# Altium schematic symbol library MCU_Microchip_8051.SchLib: 15 symbols
Pins are listed as number, name and electrical type; pins without a type are passive.

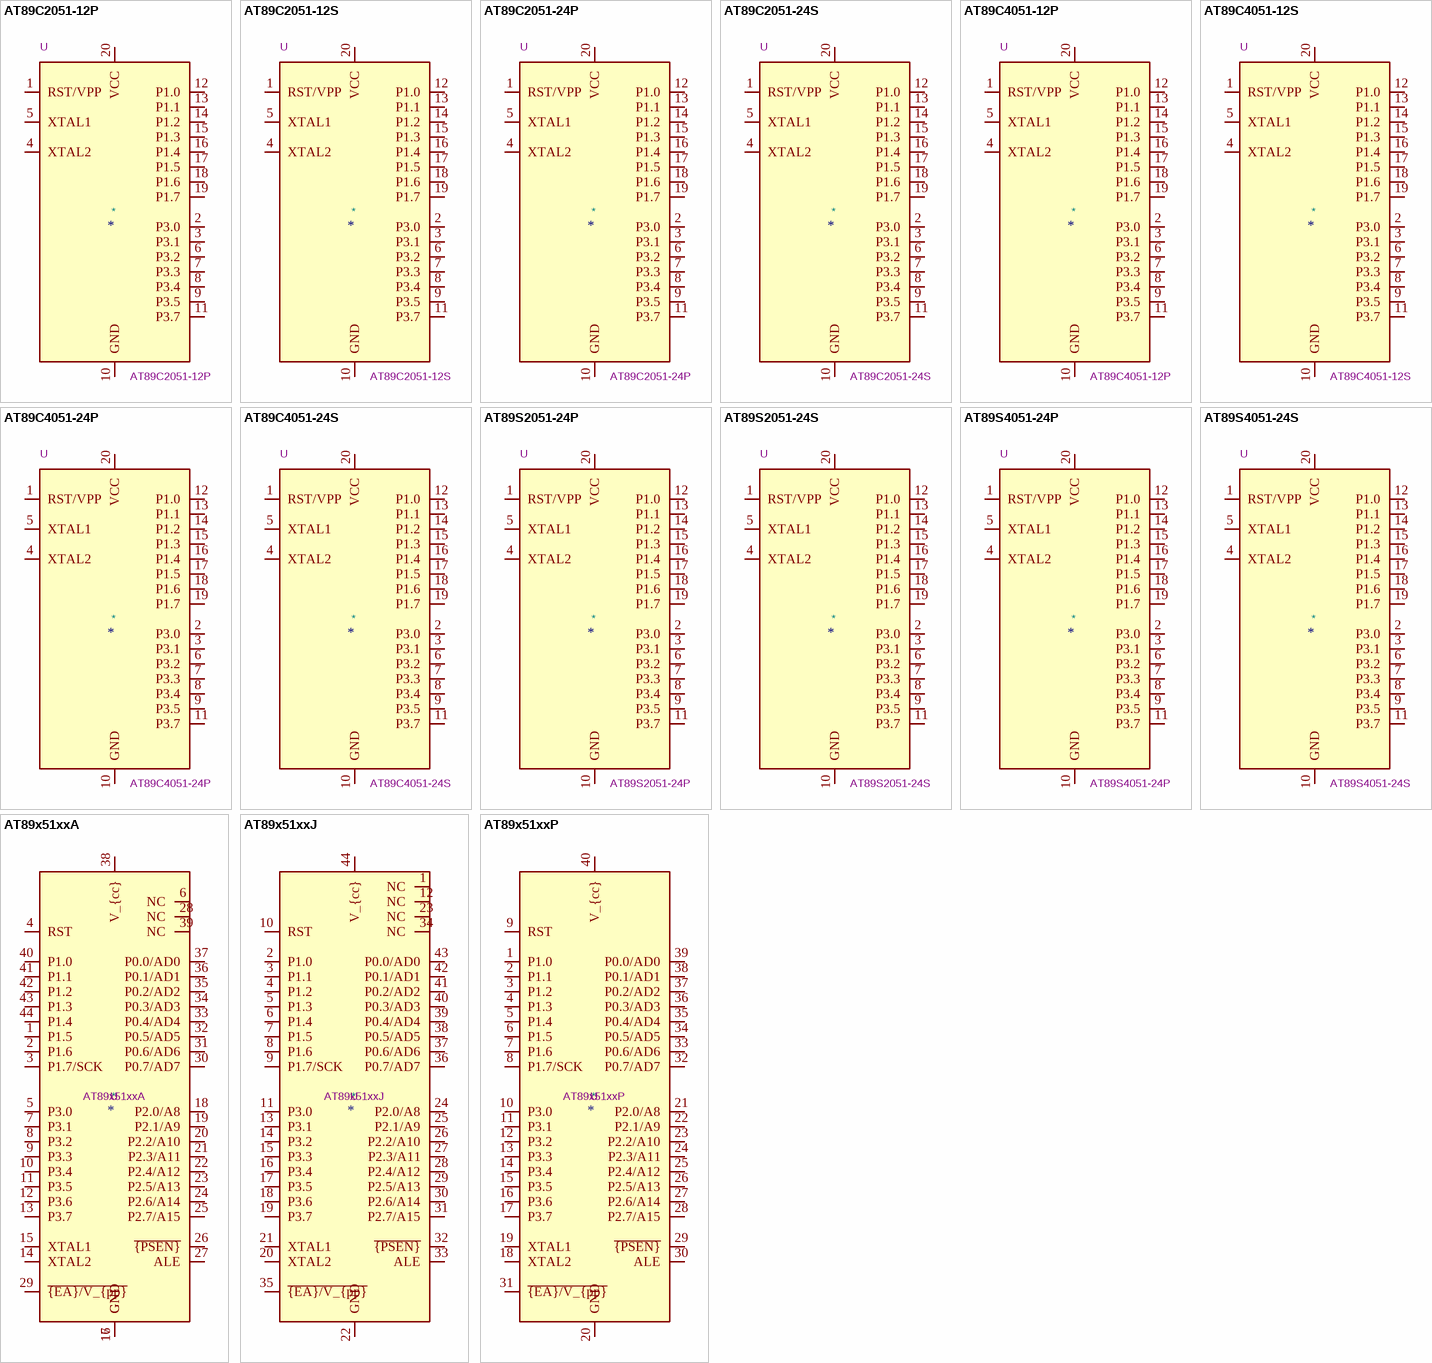
[diagram p0: symbols AT89C2051-12P to AT89x51xxP]

## AT89C2051-12P
designator *  value AT89C2051-12P  Reference: U
12MHz, 2kB Flash, 128B SRAM, DIP-20; ki_keywords: MCS-51 8bit Flash Microcontroller; ki_fp_filters: DIP*W7.62mm*; Footprint: Package_DIP:DIP-20_W7.62mm; Datasheet: http://ww1.microchip.com/downloads/en/DeviceDoc/doc0368.pdf; Description_: 12MHz, 2kB Flash, 128B SRAM, DIP-20
pins: 1 RST/VPP, 2 P3.0, 3 P3.1, 4 XTAL2, 5 XTAL1, 6 P3.2, 7 P3.3, 8 P3.4, 9 P3.5, 10 GND, 11 P3.7, 12 P1.0, 13 P1.1, 14 P1.2, 15 P1.3, 16 P1.4, 17 P1.5, 18 P1.6, 19 P1.7, 20 VCC

## AT89C2051-12S
designator *  value AT89C2051-12S  Reference: U
12MHz, 2kB Flash, 128B SRAM, SOIC-20; ki_keywords: MCS-51 8bit Flash Microcontroller; ki_fp_filters: SOIC*7.5x12.8mm*P1.27mm*; Footprint: Package_SO:SOIC-20W_7.5x12.8mm_P1.27mm; Datasheet: http://ww1.microchip.com/downloads/en/DeviceDoc/doc0368.pdf; Description_: 12MHz, 2kB Flash, 128B SRAM, SOIC-20
pins: 1 RST/VPP, 2 P3.0, 3 P3.1, 4 XTAL2, 5 XTAL1, 6 P3.2, 7 P3.3, 8 P3.4, 9 P3.5, 10 GND, 11 P3.7, 12 P1.0, 13 P1.1, 14 P1.2, 15 P1.3, 16 P1.4, 17 P1.5, 18 P1.6, 19 P1.7, 20 VCC

## AT89C2051-24P
designator *  value AT89C2051-24P  Reference: U
24MHz, 2kB Flash, 128B SRAM, DIP-20; ki_keywords: MCS-51 8bit Flash Microcontroller; ki_fp_filters: DIP*W7.62mm*; Footprint: Package_DIP:DIP-20_W7.62mm; Datasheet: http://ww1.microchip.com/downloads/en/DeviceDoc/doc0368.pdf; Description_: 24MHz, 2kB Flash, 128B SRAM, DIP-20
pins: 1 RST/VPP, 2 P3.0, 3 P3.1, 4 XTAL2, 5 XTAL1, 6 P3.2, 7 P3.3, 8 P3.4, 9 P3.5, 10 GND, 11 P3.7, 12 P1.0, 13 P1.1, 14 P1.2, 15 P1.3, 16 P1.4, 17 P1.5, 18 P1.6, 19 P1.7, 20 VCC

## AT89C2051-24S
designator *  value AT89C2051-24S  Reference: U
24MHz, 2kB Flash, 128B SRAM, SOIC-20; ki_keywords: MCS-51 8bit Flash Microcontroller; ki_fp_filters: SOIC*7.5x12.8mm*P1.27mm*; Footprint: Package_SO:SOIC-20W_7.5x12.8mm_P1.27mm; Datasheet: http://ww1.microchip.com/downloads/en/DeviceDoc/doc0368.pdf; Description_: 24MHz, 2kB Flash, 128B SRAM, SOIC-20
pins: 1 RST/VPP, 2 P3.0, 3 P3.1, 4 XTAL2, 5 XTAL1, 6 P3.2, 7 P3.3, 8 P3.4, 9 P3.5, 10 GND, 11 P3.7, 12 P1.0, 13 P1.1, 14 P1.2, 15 P1.3, 16 P1.4, 17 P1.5, 18 P1.6, 19 P1.7, 20 VCC

## AT89C4051-12P
designator *  value AT89C4051-12P  Reference: U
12MHz, 4kB Flash, 128B SRAM, DIP-20; ki_keywords: MCS-51 8bit Flash Microcontroller; ki_fp_filters: DIP*W7.62mm*; Footprint: Package_DIP:DIP-20_W7.62mm; Datasheet: http://ww1.microchip.com/downloads/en/DeviceDoc/doc1001.pdf; Description_: 12MHz, 4kB Flash, 128B SRAM, DIP-20
pins: 1 RST/VPP, 2 P3.0, 3 P3.1, 4 XTAL2, 5 XTAL1, 6 P3.2, 7 P3.3, 8 P3.4, 9 P3.5, 10 GND, 11 P3.7, 12 P1.0, 13 P1.1, 14 P1.2, 15 P1.3, 16 P1.4, 17 P1.5, 18 P1.6, 19 P1.7, 20 VCC

## AT89C4051-12S
designator *  value AT89C4051-12S  Reference: U
12MHz, 4kB Flash, 128B SRAM, SOIC-20; ki_keywords: MCS-51 8bit Flash Microcontroller; ki_fp_filters: SOIC*7.5x12.8mm*P1.27mm*; Footprint: Package_SO:SOIC-20W_7.5x12.8mm_P1.27mm; Datasheet: http://ww1.microchip.com/downloads/en/DeviceDoc/doc1001.pdf; Description_: 12MHz, 4kB Flash, 128B SRAM, SOIC-20
pins: 1 RST/VPP, 2 P3.0, 3 P3.1, 4 XTAL2, 5 XTAL1, 6 P3.2, 7 P3.3, 8 P3.4, 9 P3.5, 10 GND, 11 P3.7, 12 P1.0, 13 P1.1, 14 P1.2, 15 P1.3, 16 P1.4, 17 P1.5, 18 P1.6, 19 P1.7, 20 VCC

## AT89C4051-24P
designator *  value AT89C4051-24P  Reference: U
24MHz, 4kB Flash, 128B SRAM, DIP-20; ki_keywords: MCS-51 8bit Flash Microcontroller; ki_fp_filters: DIP*W7.62mm*; Footprint: Package_DIP:DIP-20_W7.62mm; Datasheet: http://ww1.microchip.com/downloads/en/DeviceDoc/doc1001.pdf; Description_: 24MHz, 4kB Flash, 128B SRAM, DIP-20
pins: 1 RST/VPP, 2 P3.0, 3 P3.1, 4 XTAL2, 5 XTAL1, 6 P3.2, 7 P3.3, 8 P3.4, 9 P3.5, 10 GND, 11 P3.7, 12 P1.0, 13 P1.1, 14 P1.2, 15 P1.3, 16 P1.4, 17 P1.5, 18 P1.6, 19 P1.7, 20 VCC

## AT89C4051-24S
designator *  value AT89C4051-24S  Reference: U
24MHz, 4kB Flash, 128B SRAM, SOIC-20; ki_keywords: MCS-51 8bit Flash Microcontroller; ki_fp_filters: SOIC*7.5x12.8mm*P1.27mm*; Footprint: Package_SO:SOIC-20W_7.5x12.8mm_P1.27mm; Datasheet: http://ww1.microchip.com/downloads/en/DeviceDoc/doc1001.pdf; Description_: 24MHz, 4kB Flash, 128B SRAM, SOIC-20
pins: 1 RST/VPP, 2 P3.0, 3 P3.1, 4 XTAL2, 5 XTAL1, 6 P3.2, 7 P3.3, 8 P3.4, 9 P3.5, 10 GND, 11 P3.7, 12 P1.0, 13 P1.1, 14 P1.2, 15 P1.3, 16 P1.4, 17 P1.5, 18 P1.6, 19 P1.7, 20 VCC

## AT89S2051-24P
designator *  value AT89S2051-24P  Reference: U
24MHz, 2kB Flash, 256B SRAM, DIP-20; ki_keywords: MCS-51 8bit Flash Microcontroller; ki_fp_filters: DIP*W7.62mm*; Footprint: Package_DIP:DIP-20_W7.62mm; Datasheet: http://ww1.microchip.com/downloads/en/DeviceDoc/doc3390.pdf; Description_: 24MHz, 2kB Flash, 256B SRAM, DIP-20
pins: 1 RST/VPP, 2 P3.0, 3 P3.1, 4 XTAL2, 5 XTAL1, 6 P3.2, 7 P3.3, 8 P3.4, 9 P3.5, 10 GND, 11 P3.7, 12 P1.0, 13 P1.1, 14 P1.2, 15 P1.3, 16 P1.4, 17 P1.5, 18 P1.6, 19 P1.7, 20 VCC

## AT89S2051-24S
designator *  value AT89S2051-24S  Reference: U
24MHz, 2kB Flash, 256B SRAM, SOIC-20; ki_keywords: MCS-51 8bit Flash Microcontroller; ki_fp_filters: SOIC*7.5x12.8mm*P1.27mm*; Footprint: Package_SO:SOIC-20W_7.5x12.8mm_P1.27mm; Datasheet: http://ww1.microchip.com/downloads/en/DeviceDoc/doc3390.pdf; Description_: 24MHz, 2kB Flash, 256B SRAM, SOIC-20
pins: 1 RST/VPP, 2 P3.0, 3 P3.1, 4 XTAL2, 5 XTAL1, 6 P3.2, 7 P3.3, 8 P3.4, 9 P3.5, 10 GND, 11 P3.7, 12 P1.0, 13 P1.1, 14 P1.2, 15 P1.3, 16 P1.4, 17 P1.5, 18 P1.6, 19 P1.7, 20 VCC

## AT89S4051-24P
designator *  value AT89S4051-24P  Reference: U
24MHz, 4kB Flash, 256B SRAM, DIP-20; ki_keywords: MCS-51 8bit Flash Microcontroller; ki_fp_filters: DIP*W7.62mm*; Footprint: Package_DIP:DIP-20_W7.62mm; Datasheet: http://ww1.microchip.com/downloads/en/DeviceDoc/doc3390.pdf; Description_: 24MHz, 4kB Flash, 256B SRAM, DIP-20
pins: 1 RST/VPP, 2 P3.0, 3 P3.1, 4 XTAL2, 5 XTAL1, 6 P3.2, 7 P3.3, 8 P3.4, 9 P3.5, 10 GND, 11 P3.7, 12 P1.0, 13 P1.1, 14 P1.2, 15 P1.3, 16 P1.4, 17 P1.5, 18 P1.6, 19 P1.7, 20 VCC

## AT89S4051-24S
designator *  value AT89S4051-24S  Reference: U
24MHz, 4kB Flash, 256B SRAM, SOIC-20; ki_keywords: MCS-51 8bit Flash Microcontroller; ki_fp_filters: SOIC*7.5x12.8mm*P1.27mm*; Footprint: Package_SO:SOIC-20W_7.5x12.8mm_P1.27mm; Datasheet: http://ww1.microchip.com/downloads/en/DeviceDoc/doc3390.pdf; Description_: 24MHz, 4kB Flash, 256B SRAM, SOIC-20
pins: 1 RST/VPP, 2 P3.0, 3 P3.1, 4 XTAL2, 5 XTAL1, 6 P3.2, 7 P3.3, 8 P3.4, 9 P3.5, 10 GND, 11 P3.7, 12 P1.0, 13 P1.1, 14 P1.2, 15 P1.3, 16 P1.4, 17 P1.5, 18 P1.6, 19 P1.7, 20 VCC

## AT89x51xxA
designator *  value AT89x51xxA  Reference: U
8-bit Microcontroller with 4K Bytes Flash, TQFP-44; ki_keywords: Microcontroller 8051 TQFP; ki_fp_filters: ?QFP?44*; Footprint: Package_QFP:TQFP-44_10x10mm_P0.8mm; Datasheet: https://ww1.microchip.com/downloads/en/DeviceDoc/doc2487.pdf; Description_: 8-bit Microcontroller with 4K Bytes Flash, TQFP-44
pins: 1 P1.5, 2 P1.6, 3 P1.7/SCK, 4 RST, 5 P3.0, 6 NC, 7 P3.1, 8 P3.2, 9 P3.3, 10 P3.4, 11 P3.5, 12 P3.6, 13 P3.7, 14 XTAL2, 15 XTAL1, 16 GND, 17 GND, 18 P2.0/A8, 19 P2.1/A9, 20 P2.2/A10, 21 P2.3/A11, 22 P2.4/A12, 23 P2.5/A13, 24 P2.6/A14, 25 P2.7/A15, 26 ~{{PSEN}}, 27 ALE, 28 NC, 29 ~{{EA}/V_{pp}}, 30 P0.7/AD7, 31 P0.6/AD6, 32 P0.5/AD5, 33 P0.4/AD4, 34 P0.3/AD3, 35 P0.2/AD2, 36 P0.1/AD1, 37 P0.0/AD0, 38 V_{cc}, 39 NC, 40 P1.0, 41 P1.1, 42 P1.2, 43 P1.3, 44 P1.4

## AT89x51xxJ
designator *  value AT89x51xxJ  Reference: U
8-bit Microcontroller with 4K Bytes Flash, PLCC-44; ki_keywords: Microcontroller 8051 PLCC; ki_fp_filters: PLCC?44*; Footprint: Package_LCC:PLCC-44; Datasheet: https://ww1.microchip.com/downloads/en/DeviceDoc/doc2487.pdf; Description_: 8-bit Microcontroller with 4K Bytes Flash, PLCC-44
pins: 1 NC, 2 P1.0, 3 P1.1, 4 P1.2, 5 P1.3, 6 P1.4, 7 P1.5, 8 P1.6, 9 P1.7/SCK, 10 RST, 11 P3.0, 12 NC, 13 P3.1, 14 P3.2, 15 P3.3, 16 P3.4, 17 P3.5, 18 P3.6, 19 P3.7, 20 XTAL2, 21 XTAL1, 22 GND, 23 NC, 24 P2.0/A8, 25 P2.1/A9, 26 P2.2/A10, 27 P2.3/A11, 28 P2.4/A12, 29 P2.5/A13, 30 P2.6/A14, 31 P2.7/A15, 32 ~{{PSEN}}, 33 ALE, 34 NC, 35 ~{{EA}/V_{pp}}, 36 P0.7/AD7, 37 P0.6/AD6, 38 P0.5/AD5, 39 P0.4/AD4, 40 P0.3/AD3, 41 P0.2/AD2, 42 P0.1/AD1, 43 P0.0/AD0, 44 V_{cc}

## AT89x51xxP
designator *  value AT89x51xxP  Reference: U
8-bit Microcontroller with 4K Bytes Flash, DIP-40; ki_keywords: Microcontroller 8051 DIP; ki_fp_filters: DIP*40*W15.24*; Footprint: Package_DIP:DIP-40_W15.24mm; Datasheet: https://ww1.microchip.com/downloads/en/DeviceDoc/doc2487.pdf; Description_: 8-bit Microcontroller with 4K Bytes Flash, DIP-40
pins: 1 P1.0, 2 P1.1, 3 P1.2, 4 P1.3, 5 P1.4, 6 P1.5, 7 P1.6, 8 P1.7/SCK, 9 RST, 10 P3.0, 11 P3.1, 12 P3.2, 13 P3.3, 14 P3.4, 15 P3.5, 16 P3.6, 17 P3.7, 18 XTAL2, 19 XTAL1, 20 GND, 21 P2.0/A8, 22 P2.1/A9, 23 P2.2/A10, 24 P2.3/A11, 25 P2.4/A12, 26 P2.5/A13, 27 P2.6/A14, 28 P2.7/A15, 29 ~{{PSEN}}, 30 ALE, 31 ~{{EA}/V_{pp}}, 32 P0.7/AD7, 33 P0.6/AD6, 34 P0.5/AD5, 35 P0.4/AD4, 36 P0.3/AD3, 37 P0.2/AD2, 38 P0.1/AD1, 39 P0.0/AD0, 40 V_{cc}